# EAGLE library part HDMI_CONN (library eagle-book)
HDMI D Receptacle
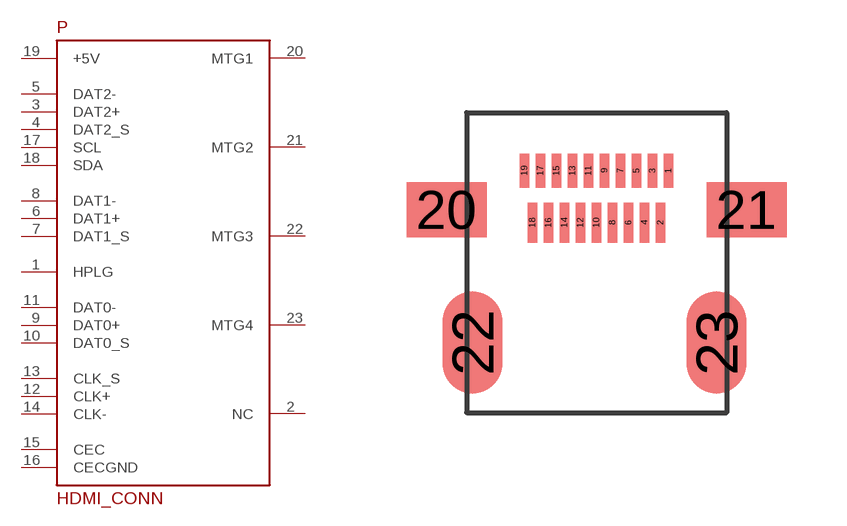
[diagram p20: symbol with the pads of HDMI_D_RECEPTACLE; footprint HDMI_D_RECEPTACLE]

Designator prefix P

## HDMI_CONN  [HDMI_D_RECEPTACLE]
1  HPLG
2  NC  nc
3  DAT2+
4  DAT2_S
5  DAT2-
6  DAT1+
7  DAT1_S
8  DAT1-
9  DAT0+
10  DAT0_S
11  DAT0-
12  CLK+
13  CLK_S
14  CLK-
15  CEC
16  CECGND
17  SCL
18  SDA
19  +5V  pwr
20  MTG1  pwr
21  MTG2  pwr
22  MTG3  pwr
23  MTG4  pwr

## Footprint HDMI_D_RECEPTACLE (pad centres in mm)
HDMI Type-D Micro Connector
smd 0.23 x 0.85: 1 1.8,2.3; 3 1.4,2.3; 5 1,2.3; 7 0.6,2.3; 9 0.2,2.3; 11 -0.2,2.3; 13 -0.6,2.3; 15 -1,2.3; 17 -1.4,2.3; 19 -1.8,2.3
smd 0.23 x 1: 2 1.6,1; 4 1.2,1; 6 0.8,1; 8 0.4,1; 10 0,1; 12 -0.4,1; 14 -0.8,1; 16 -1.2,1; 18 -1.6,1
smd 2 x 1.38: 20 -3.75,1.32; 21 3.75,1.32
smd 1.5 x 2.55: 22 -3.1,-2; 23 3,-2